# Altium schematic symbol library rtc.SchLib: 81 symbols
Pins are listed as number, name and electrical type; pins without a type are passive.

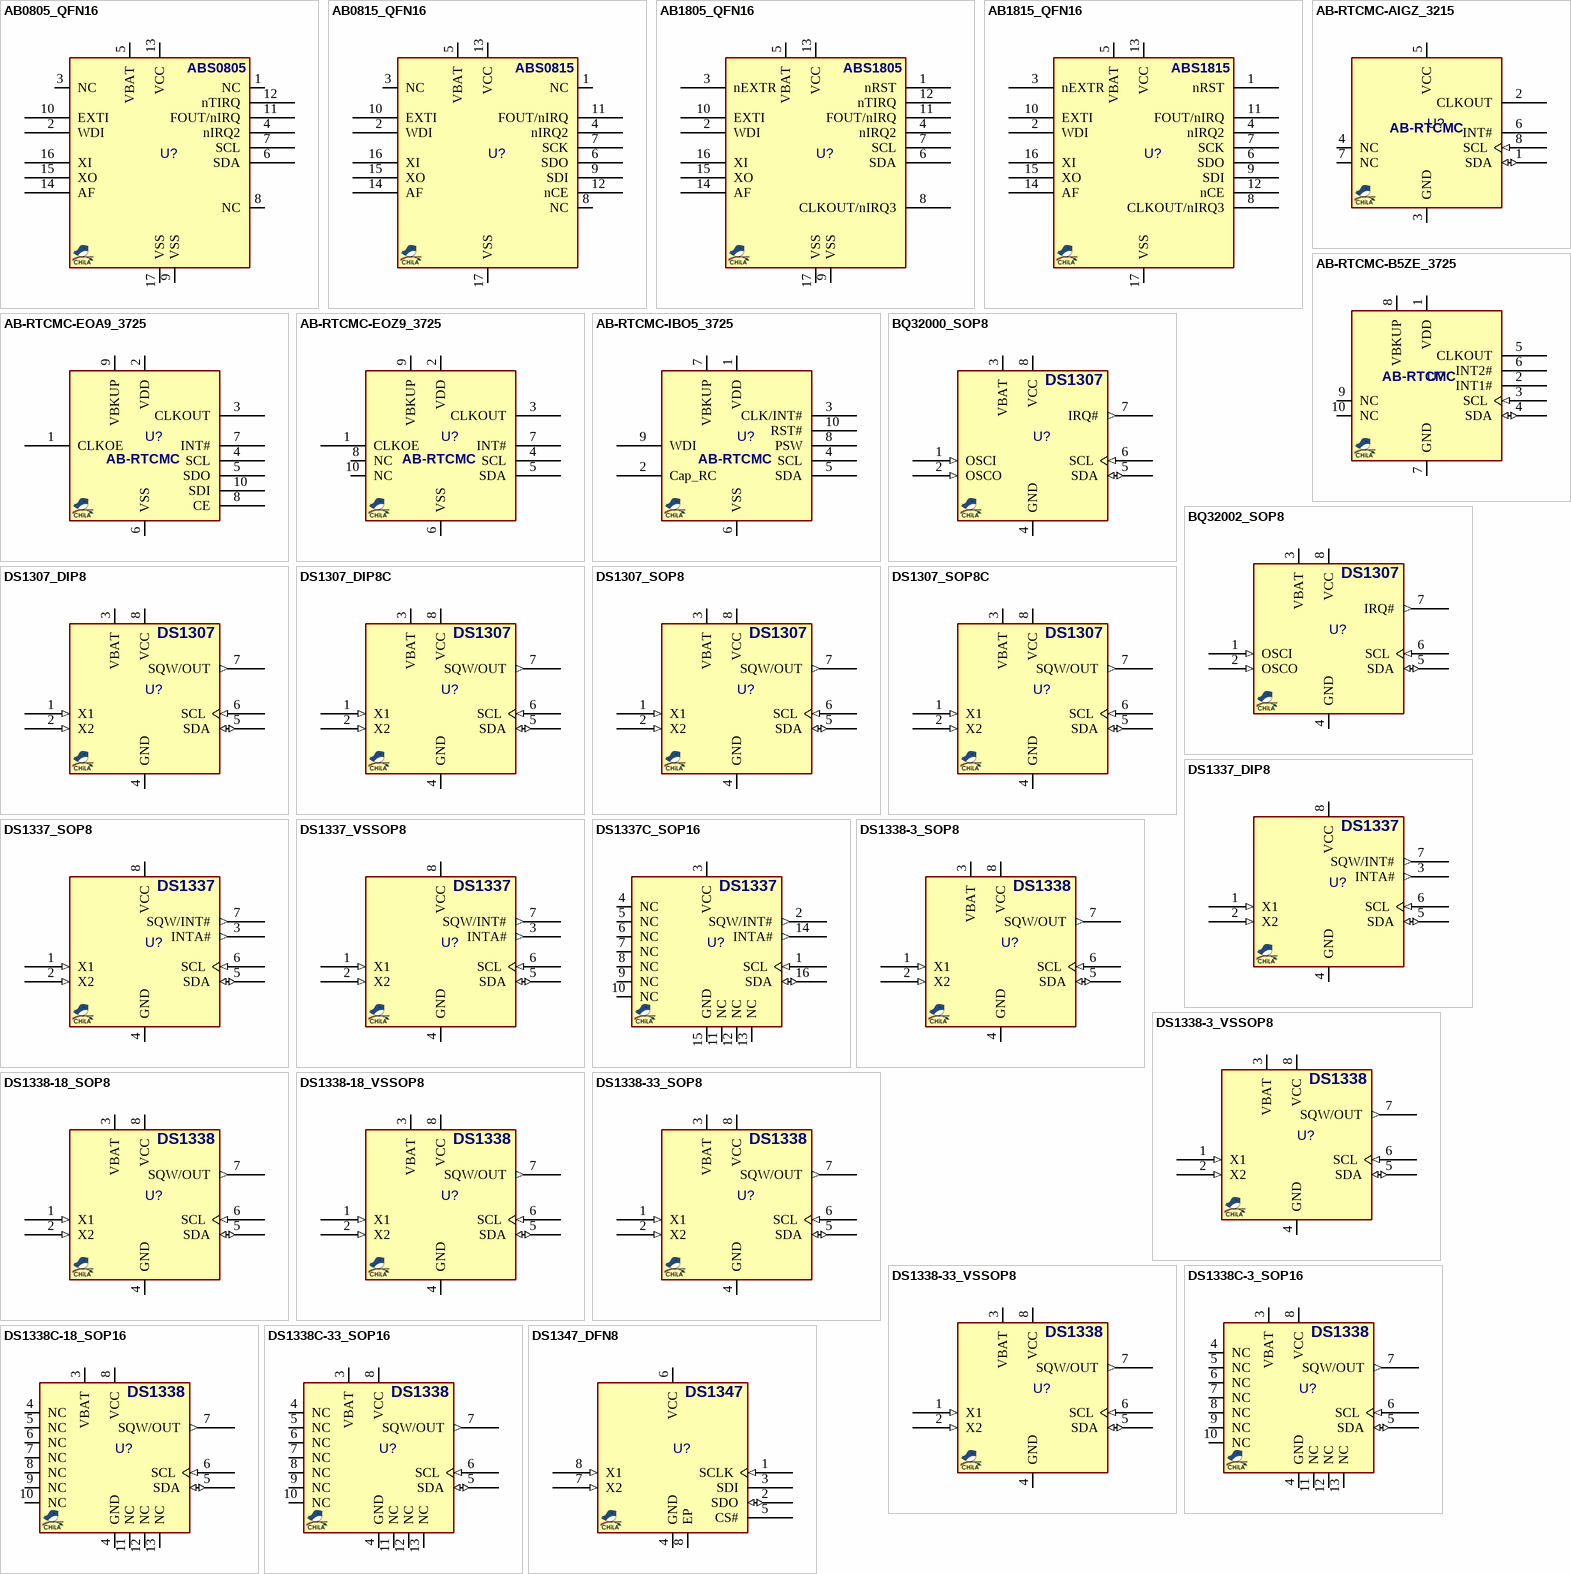
[diagram p0: symbols AB0805_QFN16 to DS1347_DFN8]

## AB0805_QFN16
designator U?, comment AB0805  (value not drawn)
Real-Time Clock, I2C, 256B, Batt, 14nA/3V timekeeping; DESC: Alarm, Calendar, Clock; MANF: ABRACON; MANF_P#: AB0805-T3; PARAM2: 1.5~3.6V; PARAM: I2C, 256B, Batt, -40~85oC; VALUE: AB0805; PRICE: 1.8$; PACKAGE: QFN-16
footprint QFN50_16T_3X3 (RGT PVQFN (TI), 16-lead, pitch: 0.5mm, 3x3mm)
pins: 1 NC, 2 WDI, 3 NC, 4 nIRQ2, 5 VBAT, 6 SDA, 7 SCL, 8 NC, 9 VSS, 10 EXTI, 11 FOUT/nIRQ, 12 nTIRQ, 13 VCC, 14 AF, 15 XO, 16 XI, 17 VSS
text: ABS0805

## AB0815_QFN16
designator U?, comment AB0815  (value not drawn)
Real-Time Clock, SPI, 256B, Batt, 14nA/3V timekeeping; DESC: Alarm, Calendar, Clock; MANF: ABRACON; MANF_P#: AB0815-T3; PARAM2: 1.5~3.6V; PARAM: SPI, 256B, Batt, -40~85oC; VALUE: AB0815; PRICE: 1.8$; PACKAGE: QFN-16
footprint QFN50_16T_3X3 (RGT PVQFN (TI), 16-lead, pitch: 0.5mm, 3x3mm)
pins: 1 NC, 2 WDI, 3 NC, 4 nIRQ2, 5 VBAT, 6 SDO, 7 SCK, 8 NC, 9 SDI, 10 EXTI, 11 FOUT/nIRQ, 12 nCE, 13 VCC, 14 AF, 15 XO, 16 XI, 17 VSS
text: ABS0815

## AB1805_QFN16
designator U?, comment AB0805  (value not drawn)
Real-Time Clock, I2C, 256B, Batt, 14nA/3V timekeeping; DESC: Alarm, Calendar, Clock; MANF: ABRACON; MANF_P#: AB1805-T3; PARAM2: 1.5~3.6V; PARAM: I2C, 256B, Batt, -40~85oC; VALUE: AB0805; PRICE: 2$; PACKAGE: QFN-16
footprint QFN50_16T_3X3 (RGT PVQFN (TI), 16-lead, pitch: 0.5mm, 3x3mm)
pins: 1 nRST, 2 WDI, 3 nEXTR, 4 nIRQ2, 5 VBAT, 6 SDA, 7 SCL, 8 CLKOUT/nIRQ3, 9 VSS, 10 EXTI, 11 FOUT/nIRQ, 12 nTIRQ, 13 VCC, 14 AF, 15 XO, 16 XI, 17 VSS
text: ABS1805

## AB1815_QFN16
designator U?, comment AB1815  (value not drawn)
Real-Time Clock, SPI, 256B, Batt, 14nA/3V timekeeping; DESC: Alarm, Calendar, Clock; MANF: ABRACON; MANF_P#: AB1815-T3; PARAM2: 1.5~3.6V; PARAM: SPI, 256B, Batt, -40~85oC; VALUE: AB1815; PRICE: 2$; PACKAGE: QFN-16
footprint QFN50_16T_3X3 (RGT PVQFN (TI), 16-lead, pitch: 0.5mm, 3x3mm)
pins: 1 nRST, 2 WDI, 3 nEXTR, 4 nIRQ2, 5 VBAT, 6 SDO, 7 SCK, 8 CLKOUT/nIRQ3, 9 SDI, 10 EXTI, 11 FOUT/nIRQ, 12 nCE, 13 VCC, 14 AF, 15 XO, 16 XI, 17 VSS
text: ABS1815

## AB-RTCMC-AIGZ_3215
designator U?, comment AB-RTCMC  (value not drawn)
Real-Time Clock, I2C, +IntCryst, 350nA/3V timekeeping; DESC: Alarm, Calendar, Clock; MANF: ABRACON; MANF_P#: AB-RTCMC-32.768kHz-AIGZ-S7; PARAM2: 1.3~4.4V; PARAM: I2C, +IntCryst, -40~85oC; VALUE: AB-RTCMC; PRICE: 4.8$; PACKAGE: XTL_8_3215
footprint XTL_8_3215 (8-CLCC, 3.2X1.5X0.8mm, 0.9mm pitch)
pins: 1 SDA (io), 2 CLKOUT, 3 GND (power), 4 NC, 5 VCC (power), 6 INT#, 7 NC, 8 SCL (in)

## AB-RTCMC-B5ZE_3725
designator U?, comment AB-RTCMC  (value not drawn)
Real-Time Clock, I2C, +IntCryst, 130nA/3V timekeeping; DESC: Alarm, Calendar, Clock; MANF: ABRACON; MANF_P#: AB-RTCMC-32.768kHz-B5ZE-S3; PARAM2: 1.6~5.5V; PARAM: I2C, +IntCryst, -40~85oC; VALUE: AB-RTCMC; PRICE: 4.8$; PACKAGE: XTL_10_3725
footprint XTL_10_3725 (10-VDFN, 3.7X2.5X0.9mm, 0.8mm pitch)
pins: 1 VDD (power), 2 INT1#, 3 SCL (in), 4 SDA (io), 5 CLKOUT, 6 INT2#, 7 GND (power), 8 VBKUP (power), 9 NC, 10 NC

## AB-RTCMC-EOA9_3725
designator U?, comment AB-RTCMC  (value not drawn)
Real-Time Clock, I2C, +IntCryst, 800nA/3V timekeeping; DESC: Alarm, Calendar, Clock; MANF: ABRACON; MANF_P#: AB-RTCMC-32.768KHZ-EOA9-S3; PARAM2: 1.4~5.5V; PARAM: I2C, +IntCryst, -40~125oC; VALUE: AB-RTCMC; PRICE: 4.8$; PACKAGE: XTL_10_3725
footprint XTL_10_3725 (10-VDFN, 3.7X2.5X0.9mm, 0.8mm pitch)
pins: 1 CLKOE, 2 VDD, 3 CLKOUT, 4 SCL, 5 SDO, 6 VSS, 7 INT#, 8 CE, 9 VBKUP, 10 SDI

## AB-RTCMC-EOZ9_3725
designator U?, comment AB-RTCMC  (value not drawn)
Real-Time Clock, I2C, +IntCryst, 800nA/3V timekeeping; DESC: Alarm, Calendar, Clock; MANF: ABRACON; MANF_P#: AB-RTCMC-32.768kHz-EOZ9-S3; PARAM2: 1.4~5.5V; PARAM: I2C, +IntCryst, -40~85oC; VALUE: AB-RTCMC; PRICE: 4.8$; PACKAGE: XTL_10_3725
footprint XTL_10_3725 (10-VDFN, 3.7X2.5X0.9mm, 0.8mm pitch)
pins: 1 CLKOE, 2 VDD, 3 CLKOUT, 4 SCL, 5 SDA, 6 VSS, 7 INT#, 8 NC, 9 VBKUP, 10 NC

## AB-RTCMC-IBO5_3725
designator U?, comment AB-RTCMC  (value not drawn)
Real-Time Clock, I2C, +IntCryst, 512B, 22nA@3V timekeeping; DESC: Alarm, Calendar, Clock; MANF: ABRACON; MANF_P#: AB-RTCMC-32.768kHz-IBO5-S3; PARAM2: 1.5~3.6V; PARAM: I2C, +IntCryst, 512B, -40~85oC; VALUE: AB-RTCMC; PRICE: 4.8$; PACKAGE: XTL_10_3725
footprint XTL_10_3725 (10-VDFN, 3.7X2.5X0.9mm, 0.8mm pitch)
pins: 1 VDD, 2 Cap_RC, 3 CLK/INT#, 4 SCL, 5 SDA, 6 VSS, 7 VBKUP, 8 PSW, 9 WDI, 10 RST#

## BQ32000_SOP8
designator U?, comment BQ32000  (value not drawn)
Real-Time Clock, I2C, Batt; MANF: Texas Instruments; MANF_P#: BQ32000D; PARAM2: 3~3.6V; PARAM: I2C, Batt, -40~85oC; VALUE: BQ32000; PRICE: 1.7$; PACKAGE: SOP-8
footprint SO_8 (SOP-8, 5x3.9mm body 1.27mm pitch, SOT96-1, M08A, S8, SOIC8, VO8, MS-012AA(JEDEC), R-8, 8S2, VOG8)
pins: 1 OSCI (in), 2 OSCO (in), 3 VBAT (power), 4 GND (power), 5 SDA (io), 6 SCL (in), 7 IRQ# (out), 8 VCC (power)
text: DS1307

## BQ32002_SOP8
designator U?, comment BQ32002  (value not drawn)
Real-Time Clock, I2C, Batt; MANF: Texas Instruments; MANF_P#: BQ32002D; PARAM2: 3~3.6V; PARAM: I2C, Batt, -40~85oC; VALUE: BQ32002; PRICE: 1.7$; PACKAGE: SOP-8
footprint SO_8 (SOP-8, 5x3.9mm body 1.27mm pitch, SOT96-1, M08A, S8, SOIC8, VO8, MS-012AA(JEDEC), R-8, 8S2, VOG8)
pins: 1 OSCI (in), 2 OSCO (in), 3 VBAT (power), 4 GND (power), 5 SDA (io), 6 SCL (in), 7 IRQ# (out), 8 VCC (power)
text: DS1307

## DS1307_DIP8
designator U?, comment DS1307  (value not drawn)
Real-Time Clock, 64 X8, I2C, 56B, Batt; MANF: Maxim Integrated; MANF_P#: DS1307N+; PARAM2: 4.5~5.5V; PARAM: 64 X8, I2C, 56B, Batt, -40~85oC; VALUE: DS1307; PRICE: 3.7$; PACKAGE: DIP-8
footprint DIP_8 (DIP, pitch 2.54mm, 300mil Width)
pins: 1 X1 (in), 2 X2 (in), 3 VBAT (power), 4 GND (power), 5 SDA (io), 6 SCL (in), 7 SQW/OUT (out), 8 VCC (power)

## DS1307_DIP8C
designator U?, comment DS1307  (value not drawn)
Real-Time Clock, 64 X8, I2C, 56B, Batt; MANF: Maxim Integrated; MANF_P#: DS1307+; PARAM2: 4.5~5.5V; PARAM: 64 X8, I2C, 56B, Batt, 0~70oC; VALUE: DS1307; PRICE: 3.3$, 1000toman@Javan.paya; PACKAGE: DIP-8
footprint DIP_8 (DIP, pitch 2.54mm, 300mil Width)
pins: 1 X1 (in), 2 X2 (in), 3 VBAT (power), 4 GND (power), 5 SDA (io), 6 SCL (in), 7 SQW/OUT (out), 8 VCC (power)

## DS1307_SOP8
designator U?, comment DS1307  (value not drawn)
Real-Time Clock, 64 X8, I2C, 56B, Batt; MANF: Maxim Integrated; MANF_P#: DS1307ZN+; PARAM2: 4.5~5.5V; PARAM: 64 X8, I2C, 56B, Batt, -40~85oC; VALUE: DS1307; PRICE: 3.7$; PACKAGE: SOP-8
footprint SO_8 (SOP-8, 5x3.9mm body 1.27mm pitch, SOT96-1, M08A, S8, SOIC8, VO8, MS-012AA(JEDEC), R-8, 8S2, VOG8)
pins: 1 X1 (in), 2 X2 (in), 3 VBAT (power), 4 GND (power), 5 SDA (io), 6 SCL (in), 7 SQW/OUT (out), 8 VCC (power)

## DS1307_SOP8C
designator U?, comment DS1307  (value not drawn)
Real-Time Clock, 64 X8, I2C, 56B, Batt; MANF: Maxim Integrated; MANF_P#: DS1307Z+; PARAM2: 4.5~5.5V; PARAM: 64 X8, I2C, 56B, Batt, 0~70oC; VALUE: DS1307; PRICE: 3.3$, 1500toman@Javan.paya; PACKAGE: SOP-8
footprint SO_8 (SOP-8, 5x3.9mm body 1.27mm pitch, SOT96-1, M08A, S8, SOIC8, VO8, MS-012AA(JEDEC), R-8, 8S2, VOG8)
pins: 1 X1 (in), 2 X2 (in), 3 VBAT (power), 4 GND (power), 5 SDA (io), 6 SCL (in), 7 SQW/OUT (out), 8 VCC (power)

## DS1337_DIP8
designator U?, comment DS1337  (value not drawn)
Real-Time Clock, I2C; MANF: Maxim Integrated; MANF_P#: DS1337+; PARAM2: 1.8~5.5V; PARAM: I2C, -40~85oC; VALUE: DS1337; PRICE: 2.8$; PACKAGE: DIP-8
footprint DIP_8 (DIP, pitch 2.54mm, 300mil Width)
pins: 1 X1 (in), 2 X2 (in), 3 INTA# (out), 4 GND (power), 5 SDA (io), 6 SCL (in), 7 SQW/INT# (out), 8 VCC (power)

## DS1337_SOP8
designator U?, comment DS1337  (value not drawn)
Real-Time Clock, I2C; MANF: Maxim Integrated; MANF_P#: DS1337S+; PARAM2: 1.8~5.5V; PARAM: I2C, -40~85oC; VALUE: DS1337; PRICE: 2.6$; PACKAGE: SOP-8
footprint SO_8 (SOP-8, 5x3.9mm body 1.27mm pitch, SOT96-1, M08A, S8, SOIC8, VO8, MS-012AA(JEDEC), R-8, 8S2, VOG8)
pins: 1 X1 (in), 2 X2 (in), 3 INTA# (out), 4 GND (power), 5 SDA (io), 6 SCL (in), 7 SQW/INT# (out), 8 VCC (power)

## DS1337_VSSOP8
designator U?, comment DS1337  (value not drawn)
Real-Time Clock, I2C; MANF: Maxim Integrated; MANF_P#: DS1337U+; PARAM2: 1.8~5.5V; PARAM: I2C, -40~85oC; VALUE: DS1337; PRICE: 2.6$; PACKAGE: VSSOP-8
footprint SOG65_8_3 (TSSOP8, MICRO8,  DGK VSSOP-8, MSOP8,   RM-8, MS8, MSOP-8, TSSO3X5-G8/D3.1, 8 uMAX, usop8/8uSOP, MO-187AA, MO-153AA, SSOP DCT SM8 (TI), pitch: 0.65mm, 3.0mmX3.0mm)
pins: 1 X1 (in), 2 X2 (in), 3 INTA# (out), 4 GND (power), 5 SDA (io), 6 SCL (in), 7 SQW/INT# (out), 8 VCC (power)

## DS1337C_SOP16
designator U?, comment DS1337  (value not drawn)
Real-Time Clock, I2C, +IntCryst; MANF: Maxim Integrated; MANF_P#: DS1337C#; PARAM2: 1.8~5.5V; PARAM: I2C, -40~85oC; VALUE: DS1337; PRICE: 5$; PACKAGE: SOP-16
footprint SO_16 (SOP, SOIC, 3.9mm width, 1.27mm pitch,)
pins: 1 SCL (in), 2 SQW/INT# (out), 3 VCC (power), 4 NC, 5 NC, 6 NC, 7 NC, 8 NC, 9 NC, 10 NC, 11 NC, 12 NC, 13 NC, 14 INTA# (out), 15 GND (power), 16 SDA (io)

## DS1338-3_SOP8
designator U?, comment DS1338  (value not drawn)
Real-Time Clock, I2C, 56B, Batt; MANF: Maxim Integrated; MANF_P#: DS1338Z-3+; PARAM2: 2.7~5.5VCC, 1.3~3.7VBAT; PARAM: I2C, 56B, Batt, -40~85oC; VALUE: DS1338; PRICE: 3.4$; PACKAGE: SOP-8
footprint SO_8 (SOP-8, 5x3.9mm body 1.27mm pitch, SOT96-1, M08A, S8, SOIC8, VO8, MS-012AA(JEDEC), R-8, 8S2, VOG8)
pins: 1 X1 (in), 2 X2 (in), 3 VBAT (power), 4 GND (power), 5 SDA (io), 6 SCL (in), 7 SQW/OUT (out), 8 VCC (power)

## DS1338-3_VSSOP8
designator U?, comment DS1338  (value not drawn)
Real-Time Clock, I2C, 56B, Batt; MANF: Maxim Integrated; MANF_P#: DS1338U-3+; PARAM2: 2.7~5.5VCC, 1.3~3.7VBAT; PARAM: I2C, 56B, Batt, -40~85oC; VALUE: DS1338; PRICE: 3.4$; PACKAGE: VSSOP-8
footprint SOG65_8_3 (TSSOP8, MICRO8,  DGK VSSOP-8, MSOP8,   RM-8, MS8, MSOP-8, TSSO3X5-G8/D3.1, 8 uMAX, usop8/8uSOP, MO-187AA, MO-153AA, SSOP DCT SM8 (TI), pitch: 0.65mm, 3.0mmX3.0mm)
pins: 1 X1 (in), 2 X2 (in), 3 VBAT (power), 4 GND (power), 5 SDA (io), 6 SCL (in), 7 SQW/OUT (out), 8 VCC (power)

## DS1338-18_SOP8
designator U?, comment DS1338  (value not drawn)
Real-Time Clock, I2C, 56B, Batt; MANF: Maxim Integrated; MANF_P#: DS1338Z-18+; PARAM2: 1.7~5.5VCC, 1.3~3.7VBAT; PARAM: I2C, 56B, Batt, -40~85oC; VALUE: DS1338; PRICE: 3.4$; PACKAGE: SOP-8
footprint SO_8 (SOP-8, 5x3.9mm body 1.27mm pitch, SOT96-1, M08A, S8, SOIC8, VO8, MS-012AA(JEDEC), R-8, 8S2, VOG8)
pins: 1 X1 (in), 2 X2 (in), 3 VBAT (power), 4 GND (power), 5 SDA (io), 6 SCL (in), 7 SQW/OUT (out), 8 VCC (power)

## DS1338-18_VSSOP8
designator U?, comment DS1338  (value not drawn)
Real-Time Clock, I2C, 56B, Batt; MANF: Maxim Integrated; MANF_P#: DS1338U-18+; PARAM2: 1.7~5.5VCC, 1.3~3.7VBAT; PARAM: I2C, 56B, Batt, -40~85oC; VALUE: DS1338; PRICE: 3.4$; PACKAGE: VSSOP-8
footprint SOG65_8_3 (TSSOP8, MICRO8,  DGK VSSOP-8, MSOP8,   RM-8, MS8, MSOP-8, TSSO3X5-G8/D3.1, 8 uMAX, usop8/8uSOP, MO-187AA, MO-153AA, SSOP DCT SM8 (TI), pitch: 0.65mm, 3.0mmX3.0mm)
pins: 1 X1 (in), 2 X2 (in), 3 VBAT (power), 4 GND (power), 5 SDA (io), 6 SCL (in), 7 SQW/OUT (out), 8 VCC (power)

## DS1338-33_SOP8
designator U?, comment DS1338  (value not drawn)
Real-Time Clock, I2C, 56B, Batt; MANF: Maxim Integrated; MANF_P#: DS1338Z-33+; PARAM2: 3.0~5.5VCC, 1.3~3.7VBAT; PARAM: I2C, 56B, Batt, -40~85oC; VALUE: DS1338; PRICE: 3.4$; PACKAGE: SOP-8
footprint SO_8 (SOP-8, 5x3.9mm body 1.27mm pitch, SOT96-1, M08A, S8, SOIC8, VO8, MS-012AA(JEDEC), R-8, 8S2, VOG8)
pins: 1 X1 (in), 2 X2 (in), 3 VBAT (power), 4 GND (power), 5 SDA (io), 6 SCL (in), 7 SQW/OUT (out), 8 VCC (power)

## DS1338-33_VSSOP8
designator U?, comment DS1338  (value not drawn)
Real-Time Clock, I2C, 56B, Batt; MANF: Maxim Integrated; MANF_P#: DS1338U-33+; PARAM2: 3.0~5.5VCC, 1.3~3.7VBAT; PARAM: I2C, 56B, Batt, -40~85oC; VALUE: DS1338; PRICE: 3.4$; PACKAGE: VSSOP-8
footprint SOG65_8_3 (TSSOP8, MICRO8,  DGK VSSOP-8, MSOP8,   RM-8, MS8, MSOP-8, TSSO3X5-G8/D3.1, 8 uMAX, usop8/8uSOP, MO-187AA, MO-153AA, SSOP DCT SM8 (TI), pitch: 0.65mm, 3.0mmX3.0mm)
pins: 1 X1 (in), 2 X2 (in), 3 VBAT (power), 4 GND (power), 5 SDA (io), 6 SCL (in), 7 SQW/OUT (out), 8 VCC (power)

## DS1338C-3_SOP16
designator U?, comment DS1338  (value not drawn)
Real-Time Clock, I2C, 56B, Batt, +IntCryst; MANF: Maxim Integrated; MANF_P#: DS1338C-3#; PARAM2: 2.7~5.5VCC, 1.3~3.7VBAT; PARAM: I2C, 56B, Batt, +IntCryst, -40~85oC; VALUE: DS1338; PRICE: 5.5$; PACKAGE: SOP-16
footprint SO_8 (SOP-8, 5x3.9mm body 1.27mm pitch, SOT96-1, M08A, S8, SOIC8, VO8, MS-012AA(JEDEC), R-8, 8S2, VOG8)
pins: 3 VBAT (power), 4 GND (power), 4 NC, 5 SDA (io), 5 NC, 6 SCL (in), 6 NC, 7 SQW/OUT (out), 7 NC, 8 VCC (power), 8 NC, 9 NC, 10 NC, 11 NC, 12 NC, 13 NC

## DS1338C-18_SOP16
designator U?, comment DS1338  (value not drawn)
Real-Time Clock, I2C, 56B, Batt, +IntCryst; MANF: Maxim Integrated; MANF_P#: DS1338C-18#; PARAM2: 1.7~5.5VCC, 1.3~3.7VBAT; PARAM: I2C, 56B, Batt, +IntCryst, -40~85oC; VALUE: DS1338; PRICE: 5.5$; PACKAGE: SOP-16
footprint SO_8 (SOP-8, 5x3.9mm body 1.27mm pitch, SOT96-1, M08A, S8, SOIC8, VO8, MS-012AA(JEDEC), R-8, 8S2, VOG8)
pins: 3 VBAT (power), 4 GND (power), 4 NC, 5 SDA (io), 5 NC, 6 SCL (in), 6 NC, 7 SQW/OUT (out), 7 NC, 8 VCC (power), 8 NC, 9 NC, 10 NC, 11 NC, 12 NC, 13 NC

## DS1338C-33_SOP16
designator U?, comment DS1338  (value not drawn)
Real-Time Clock, I2C, 56B, Batt, +IntCryst; MANF: Maxim Integrated; MANF_P#: DS1338C-33#; PARAM2: 3.0~5.5VCC, 1.3~3.7VBAT; PARAM: I2C, 56B, Batt, +IntCryst, -40~85oC; VALUE: DS1338; PRICE: 5.5$; PACKAGE: SOP-16
footprint SO_8 (SOP-8, 5x3.9mm body 1.27mm pitch, SOT96-1, M08A, S8, SOIC8, VO8, MS-012AA(JEDEC), R-8, 8S2, VOG8)
pins: 3 VBAT (power), 4 GND (power), 4 NC, 5 SDA (io), 5 NC, 6 SCL (in), 6 NC, 7 SQW/OUT (out), 7 NC, 8 VCC (power), 8 NC, 9 NC, 10 NC, 11 NC, 12 NC, 13 NC

## DS1347_DFN8
designator U?, comment DS1347  (value not drawn)
Real-Time Clock, SPI, 31B-SRAM, 400nA@2V timekeeping; MANF: Maxim Integrated; MANF_P#: DS1347T+; PARAM2: 2~5.5V; PARAM: k, SPI, 31B-SRAM, 400nA@2V, -40~85oC; VALUE: DS1347; PRICE: 3$; PACKAGE: DFN-8
footprint SON65_8T_3030 (DRB PVSON8 (TI), 3.00x3.00mm, Pitch 0.65mm)
pins: 1 SCLK (in), 2 SDO (io), 3 SDI, 4 GND (power), 5 CS#, 6 VCC (power), 7 X2 (in), 8 X1 (in), 8 EP (power)

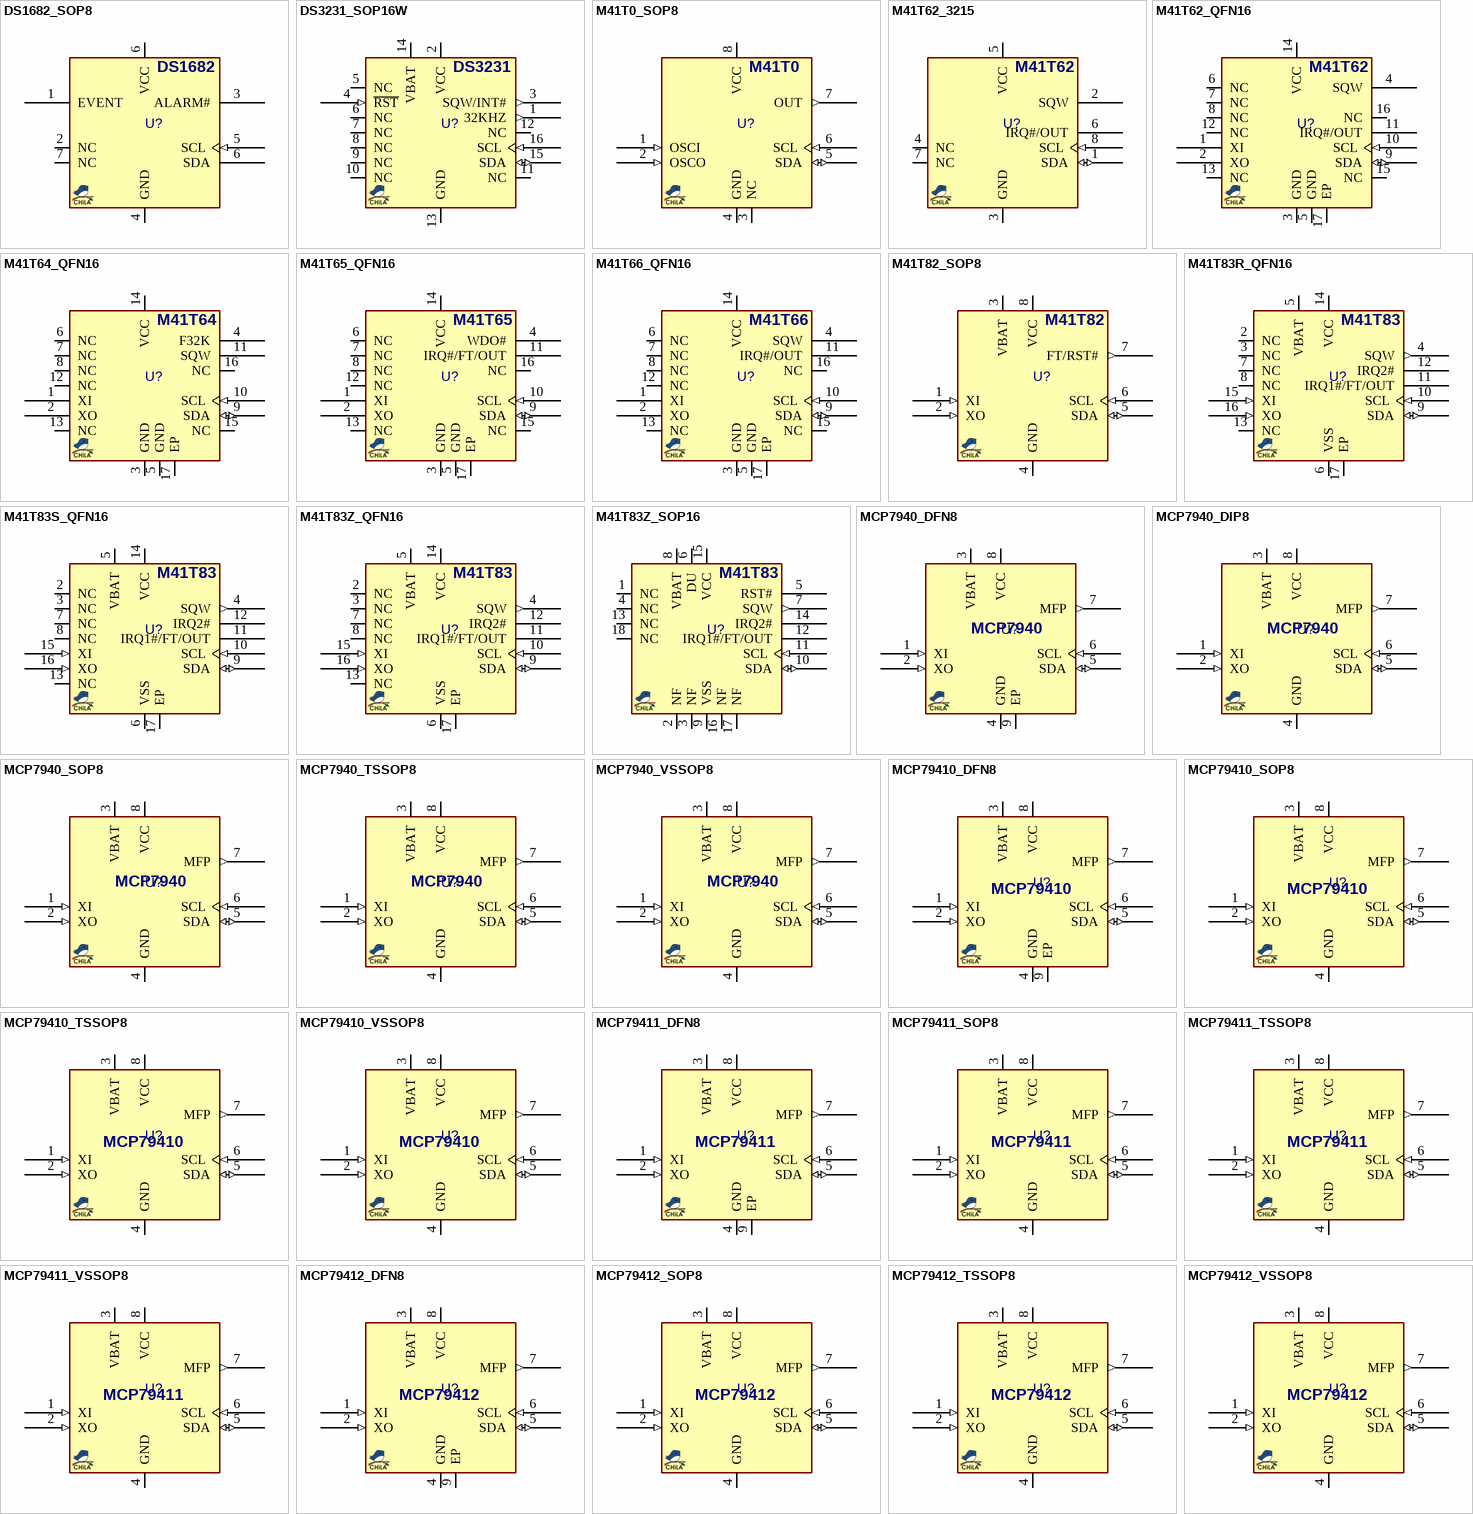
[diagram p1: symbols DS1682_SOP8 to MCP79412_VSSOP8]

## DS1682_SOP8
designator U?, comment DS1682  (value not drawn)
Real-Time Clock, I2C, 10B-ROM, +IntCryst; MANF: Maxim Integrated; MANF_P#: DS1682S+; PARAM2: 2.5~5.5V; PARAM: I2C, 10B-ROM, +IntCryst, -40~85oC; VALUE: DS1682; PRICE: 5$; PACKAGE: SOP-8
footprint SO_8 (SOP-8, 5x3.9mm body 1.27mm pitch, SOT96-1, M08A, S8, SOIC8, VO8, MS-012AA(JEDEC), R-8, 8S2, VOG8)
pins: 1 EVENT, 2 NC, 3 ALARM#, 4 GND (power), 5 SCL (in), 6 VCC (power), 6 SDA, 7 NC

## DS3231_SOP16W
designator U?, comment DS3231  (value not drawn)
Real-Time Clock, I2C, +IntCryst; MANF: Maxim Integrated; MANF_P#: DS3231SN#; PARAM2: 2.3~5.5V; PARAM: I2C, +IntCryst, -40~85°C; VALUE: DS3231; PRICE: 10$; PACKAGE: SOIC-16W
footprint SO_16_W (SOP, SOIC, 7.5mm width, 1.27mm pitch,)
pins: 1 32KHZ (out), 2 VCC (power), 3 SQW/INT# (out), 4 ~{RST} (in), 5 NC, 6 NC, 7 NC, 8 NC, 9 NC, 10 NC, 11 NC, 12 NC, 13 GND (power), 14 VBAT (power), 15 SDA (io), 16 SCL (in)

## M41T0_SOP8
designator U?, comment M41T0  (value not drawn)
Real-Time Clock, I2C, 8B; MANF: STMicroelectronics; MANF_P#: M41T0M6F; PARAM2: 2~5.5V; PARAM: I2C, 8B, -40~85oC; VALUE: M41T0; PRICE: 2$; PACKAGE: SOP-8
footprint SO_8 (SOP-8, 5x3.9mm body 1.27mm pitch, SOT96-1, M08A, S8, SOIC8, VO8, MS-012AA(JEDEC), R-8, 8S2, VOG8)
pins: 1 OSCI (in), 2 OSCO (in), 3 NC (power), 4 GND (power), 5 SDA (io), 6 SCL (in), 7 OUT (out), 8 VCC (power)

## M41T62_3215
designator U?, comment M41T62  (value not drawn)
Real-Time Clock, I2C, 16B, Alarm, +IntCryst; MANF: STMicroelectronics; MANF_P#: M41T62LC6F; PARAM2: 1.3~4.4V; PARAM: I2C, 16B, +IntCryst, -40~85oC; VALUE: M41T62; PRICE: 3.8$; PACKAGE: XTL_8_3215
footprint XTL_8_3215 (8-CLCC, 3.2X1.5X0.8mm, 0.9mm pitch)
pins: 1 SDA (io), 2 SQW, 3 GND (power), 4 NC, 5 VCC (power), 6 IRQ#/OUT, 7 NC, 8 SCL (in)

## M41T62_QFN16
designator U?, comment M41T62  (value not drawn)
Real-Time Clock, I2C, 16B, Alarm; MANF: STMicroelectronics; MANF_P#: M41T62Q6F; PARAM2: 1.3~4.4V; PARAM: I2C, 16B, -40~85oC; VALUE: M41T62; PRICE: 1.9$; PACKAGE: QFN-16
footprint QFN50_16T_3X3 (RGT PVQFN (TI), 16-lead, pitch: 0.5mm, 3x3mm)
pins: 1 XI, 2 XO, 3 GND (power), 4 SQW, 5 GND (power), 6 NC, 7 NC, 8 NC, 9 SDA (io), 10 SCL (in), 11 IRQ#/OUT, 12 NC, 13 NC, 14 VCC (power), 15 NC, 16 NC, 17 EP

## M41T64_QFN16
designator U?, comment M41T64  (value not drawn)
Real-Time Clock, I2C, 16B, Alarm; MANF: STMicroelectronics; MANF_P#: M41T64Q6F; PARAM2: 1.3~4.4V; PARAM: I2C, 16B, -40~85oC; VALUE: M41T64; PRICE: 1.9$; PACKAGE: QFN-16
footprint QFN50_16T_3X3 (RGT PVQFN (TI), 16-lead, pitch: 0.5mm, 3x3mm)
pins: 1 XI, 2 XO, 3 GND (power), 4 F32K, 5 GND (power), 6 NC, 7 NC, 8 NC, 9 SDA (io), 10 SCL (in), 11 SQW, 12 NC, 13 NC, 14 VCC (power), 15 NC, 16 NC, 17 EP

## M41T65_QFN16
designator U?, comment M41T65  (value not drawn)
Real-Time Clock, I2C, 16B, Alarm; MANF: STMicroelectronics; MANF_P#: M41T65Q6F; PARAM2: 1.3~4.4V; PARAM: I2C, 16B, -40~85oC; VALUE: M41T65; PRICE: 1.9$; PACKAGE: QFN-16
footprint QFN50_16T_3X3 (RGT PVQFN (TI), 16-lead, pitch: 0.5mm, 3x3mm)
pins: 1 XI, 2 XO, 3 GND (power), 4 WDO#, 5 GND (power), 6 NC, 7 NC, 8 NC, 9 SDA (io), 10 SCL (in), 11 IRQ#/FT/OUT, 12 NC, 13 NC, 14 VCC (power), 15 NC, 16 NC, 17 EP

## M41T66_QFN16
designator U?, comment M41T66  (value not drawn)
Real-Time Clock, I2C, 16B, Alarm, 525nA@3V timekeeping; MANF: STMicroelectronics; MANF_P#: M41T66Q6F; PARAM2: 1.3~4.4V; PARAM: I2C, 16B, -40~85oC; VALUE: M41T66; PRICE: 1.9$; PACKAGE: QFN-16
footprint QFN50_16T_3X3 (RGT PVQFN (TI), 16-lead, pitch: 0.5mm, 3x3mm)
pins: 1 XI, 2 XO, 3 GND (power), 4 SQW, 5 GND (power), 6 NC, 7 NC, 8 NC, 9 SDA (io), 10 SCL (in), 11 IRQ#/OUT, 12 NC, 13 NC, 14 VCC (power), 15 NC, 16 NC, 17 EP

## M41T82_SOP8
designator U?, comment M41T82  (value not drawn)
Real-Time Clock, I2C, 32B, BATT, alarm; MANF: STMicroelectronics; MANF_P#: M41T82RM6F; PARAM2: 2~5.5V; PARAM: I2C, 32B, -40~85oC; VALUE: M41T82; PRICE: 2.5$; PACKAGE: SOP-8
footprint SO_8 (SOP-8, 5x3.9mm body 1.27mm pitch, SOT96-1, M08A, S8, SOIC8, VO8, MS-012AA(JEDEC), R-8, 8S2, VOG8)
pins: 1 XI (in), 2 XO (in), 3 VBAT (power), 4 GND (power), 5 SDA (io), 6 SCL (in), 7 FT/RST# (out), 8 VCC (power)

## M41T83R_QFN16
designator U?, comment M41T83  (value not drawn)
Real-Time Clock, I2C, 32B, BATT, alarm; MANF: STMicroelectronics; MANF_P#: M41T83RQA6F; PARAM2: 2.7~5.5V; PARAM: I2C, 32B, -40~85oC; VALUE: M41T83; PRICE: 2.75$; PACKAGE: QFN-16
footprint QFN50_16T_3X3 (RGT PVQFN (TI), 16-lead, pitch: 0.5mm, 3x3mm)
pins: 2 NC, 3 NC, 4 SQW (out), 5 VBAT (power), 6 VSS (power), 7 NC, 8 NC, 9 SDA (io), 10 SCL (in), 11 IRQ1#/FT/OUT, 12 IRQ2#, 13 NC, 14 VCC (power), 15 XI (in), 16 XO (in), 17 EP

## M41T83S_QFN16
designator U?, comment M41T83  (value not drawn)
Real-Time Clock, I2C, 32B, BATT, alarm; MANF: STMicroelectronics; MANF_P#: M41T83SQA6F; PARAM2: 3~5.5V; PARAM: I2C, 32B, -40~85oC; VALUE: M41T83; PRICE: 2.75$; PACKAGE: QFN-16
footprint QFN50_16T_3X3 (RGT PVQFN (TI), 16-lead, pitch: 0.5mm, 3x3mm)
pins: 2 NC, 3 NC, 4 SQW (out), 5 VBAT (power), 6 VSS (power), 7 NC, 8 NC, 9 SDA (io), 10 SCL (in), 11 IRQ1#/FT/OUT, 12 IRQ2#, 13 NC, 14 VCC (power), 15 XI (in), 16 XO (in), 17 EP

## M41T83Z_QFN16
designator U?, comment M41T83  (value not drawn)
Real-Time Clock, I2C, 32B, BATT, alarm; MANF: STMicroelectronics; MANF_P#: M41T83ZQA6F; PARAM2: 2.4~5.5V; PARAM: I2C, 32B, -40~85oC; VALUE: M41T83; PRICE: 2.75$; PACKAGE: QFN-16
footprint QFN50_16T_3X3 (RGT PVQFN (TI), 16-lead, pitch: 0.5mm, 3x3mm)
pins: 2 NC, 3 NC, 4 SQW (out), 5 VBAT (power), 6 VSS (power), 7 NC, 8 NC, 9 SDA (io), 10 SCL (in), 11 IRQ1#/FT/OUT, 12 IRQ2#, 13 NC, 14 VCC (power), 15 XI (in), 16 XO (in), 17 EP

## M41T83Z_SOP16
designator U?, comment M41T83  (value not drawn)
Real-Time Clock, I2C, 32B, BATT, alarm, +IntCrystal; MANF: STMicroelectronics; MANF_P#: M41T83ZMY6F; PARAM2: 2.4~5.5V; PARAM: I2C, 32B, +IntCrystal, -40~85oC; VALUE: M41T83; PRICE: 4$; PACKAGE: SOP-16
footprint SO_18_W (SOP, SOIC, 7.5mm width, 1.27mm pitch,)
pins: 1 NC, 2 NF, 3 NF, 4 NC, 5 RST#, 6 DU (power), 7 SQW (out), 8 VBAT (power), 9 VSS (power), 10 SDA (io), 11 SCL (in), 12 IRQ1#/FT/OUT, 13 NC, 14 IRQ2#, 15 VCC (power), 16 NF, 17 NF, 18 NC

## MCP7940_DFN8
designator U?, comment MCP7940  (value not drawn)
Real-Time Clock, I2C, 64B, BATT, alarm; MANF: Microchip Technology; MANF_P#: MCP7940MT-I/MNY; PARAM2: 1.8~5.5V; PARAM: I2C, 64B, -40~85oC; VALUE: MCP7940; PRICE: 0.7$; PACKAGE: DFN-8
footprint SON50_8T_2030 (TDFN, UFDFPN8, Pitch: 0.5mm 2x3x0.8mm with Thermal pad)
pins: 1 XI (in), 2 XO (in), 3 VBAT (power), 4 GND (power), 5 SDA (io), 6 SCL (in), 7 MFP (out), 8 VCC (power), 9 EP (power)

## MCP7940_DIP8
designator U?, comment MCP7940  (value not drawn)
Real-Time Clock, I2C, 64B, BATT, alarm; MANF: Microchip Technology; MANF_P#: MCP7940N-I/P; PARAM2: 1.8~5.5V; PARAM: I2C, 64B, -40~85oC; VALUE: MCP7940; PRICE: 0.8$; PACKAGE: DIP-8
footprint DIP_8 (DIP, pitch 2.54mm, 300mil Width)
pins: 1 XI (in), 2 XO (in), 3 VBAT (power), 4 GND (power), 5 SDA (io), 6 SCL (in), 7 MFP (out), 8 VCC (power)

## MCP7940_SOP8
designator U?, comment MCP7940  (value not drawn)
Real-Time Clock, I2C, 64B, BATT, alarm; MANF: Microchip Technology; MANF_P#: MCP7940NT-I/SN; PARAM2: 1.8~5.5V; PARAM: I2C, 64B, -40~85oC; VALUE: MCP7940; PRICE: 0.8$; PACKAGE: SOP-8
footprint SO_8 (SOP-8, 5x3.9mm body 1.27mm pitch, SOT96-1, M08A, S8, SOIC8, VO8, MS-012AA(JEDEC), R-8, 8S2, VOG8)
pins: 1 XI (in), 2 XO (in), 3 VBAT (power), 4 GND (power), 5 SDA (io), 6 SCL (in), 7 MFP (out), 8 VCC (power)

## MCP7940_TSSOP8
designator U?, comment MCP7940  (value not drawn)
Real-Time Clock, I2C, 64B, BATT, alarm; MANF: Microchip Technology; MANF_P#: MCP7940N-I/ST; PARAM2: 1.8~5.5V; PARAM: I2C, 64B, -40~85oC; VALUE: MCP7940; PRICE: 0.8$; PACKAGE: TSSOP-8
footprint SOG65_8 (PW TSSOP (TI), MO-153 (JEDEC), 8Lead, pitch: 0.65mm, 3x4.4x1.2mm)
pins: 1 XI (in), 2 XO (in), 3 VBAT (power), 4 GND (power), 5 SDA (io), 6 SCL (in), 7 MFP (out), 8 VCC (power)

## MCP7940_VSSOP8
designator U?, comment MCP7940  (value not drawn)
Real-Time Clock, I2C, 64B, BATT, alarm; MANF: Microchip Technology; MANF_P#: MCP7940N-I/MS, MCP7940NT-I/MS; PARAM2: 1.8~5.5V; PARAM: I2C, 64B, -40~85oC; VALUE: MCP7940; PRICE: 0.8$; PACKAGE: VSSOP-8
footprint SOG65_8_3 (TSSOP8, MICRO8,  DGK VSSOP-8, MSOP8,   RM-8, MS8, MSOP-8, TSSO3X5-G8/D3.1, 8 uMAX, usop8/8uSOP, MO-187AA, MO-153AA, SSOP DCT SM8 (TI), pitch: 0.65mm, 3.0mmX3.0mm)
pins: 1 XI (in), 2 XO (in), 3 VBAT (power), 4 GND (power), 5 SDA (io), 6 SCL (in), 7 MFP (out), 8 VCC (power)

## MCP79410_DFN8
designator U?, comment MCP79410  (value not drawn)
Real-Time Clock, I2C, 64B SRAM, 1Kb EEPROM, BATT, alarm; MANF: Microchip Technology; MANF_P#: MCP79410T-I/MNY; PARAM2: 1.8~5.5V; PARAM: I2C, 64B, -40~85oC; VALUE: MCP79410; PRICE: 1$; PACKAGE: DFN-8
footprint SON50_8T_2030 (TDFN, UFDFPN8, Pitch: 0.5mm 2x3x0.8mm with Thermal pad)
pins: 1 XI (in), 2 XO (in), 3 VBAT (power), 4 GND (power), 5 SDA (io), 6 SCL (in), 7 MFP (out), 8 VCC (power), 9 EP (power)

## MCP79410_SOP8
designator U?, comment MCP79410  (value not drawn)
Real-Time Clock, I2C, 64B SRAM, 1Kb EEPROM, BATT, alarm; MANF: Microchip Technology; MANF_P#: MCP79410T-I/SN; PARAM2: 1.8~5.5V; PARAM: I2C, 64B, -40~85oC; VALUE: MCP79410; PRICE: 1$, 2500toman@Javan; PACKAGE: SOP-8
footprint SO_8 (SOP-8, 5x3.9mm body 1.27mm pitch, SOT96-1, M08A, S8, SOIC8, VO8, MS-012AA(JEDEC), R-8, 8S2, VOG8)
pins: 1 XI (in), 2 XO (in), 3 VBAT (power), 4 GND (power), 5 SDA (io), 6 SCL (in), 7 MFP (out), 8 VCC (power)

## MCP79410_TSSOP8
designator U?, comment MCP79410  (value not drawn)
Real-Time Clock, I2C, 64B SRAM, 1Kb EEPROM, BATT, alarm; MANF: Microchip Technology; MANF_P#: MCP79410-I/ST; PARAM2: 1.8~5.5V; PARAM: I2C, 64B, -40~85oC; VALUE: MCP79410; PRICE: 1$; PACKAGE: TSSOP-8
footprint SOG65_8 (PW TSSOP (TI), MO-153 (JEDEC), 8Lead, pitch: 0.65mm, 3x4.4x1.2mm)
pins: 1 XI (in), 2 XO (in), 3 VBAT (power), 4 GND (power), 5 SDA (io), 6 SCL (in), 7 MFP (out), 8 VCC (power)

## MCP79410_VSSOP8
designator U?, comment MCP79410  (value not drawn)
Real-Time Clock, I2C, 64B SRAM, 1Kb EEPROM, BATT, alarm; MANF: Microchip Technology; MANF_P#: MCP79410-I/MS; PARAM2: 1.8~5.5V; PARAM: I2C, 64B, -40~85oC; VALUE: MCP79410; PRICE: 1$; PACKAGE: VSSOP-8
footprint SOG65_8_3 (TSSOP8, MICRO8,  DGK VSSOP-8, MSOP8,   RM-8, MS8, MSOP-8, TSSO3X5-G8/D3.1, 8 uMAX, usop8/8uSOP, MO-187AA, MO-153AA, SSOP DCT SM8 (TI), pitch: 0.65mm, 3.0mmX3.0mm)
pins: 1 XI (in), 2 XO (in), 3 VBAT (power), 4 GND (power), 5 SDA (io), 6 SCL (in), 7 MFP (out), 8 VCC (power)

## MCP79411_DFN8
designator U?, comment MCP79411  (value not drawn)
Real-Time Clock, I2C, 64B SRAM, 1Kb EEPROM, BATT, alarm; MANF: Microchip Technology; MANF_P#: MCP79411T-I/MNY; PARAM2: 1.8~5.5V; PARAM: I2C, 64B, -40~85oC; VALUE: MCP79411; PRICE: 1$; PACKAGE: DFN-8
footprint SON50_8T_2030 (TDFN, UFDFPN8, Pitch: 0.5mm 2x3x0.8mm with Thermal pad)
pins: 1 XI (in), 2 XO (in), 3 VBAT (power), 4 GND (power), 5 SDA (io), 6 SCL (in), 7 MFP (out), 8 VCC (power), 9 EP (power)

## MCP79411_SOP8
designator U?, comment MCP79411  (value not drawn)
Real-Time Clock, I2C, 64B SRAM, 1Kb EEPROM, BATT, alarm; MANF: Microchip Technology; MANF_P#: MCP79411T-I/SN; PARAM2: 1.8~5.5V; PARAM: I2C, 64B, -40~85oC; VALUE: MCP79411; PRICE: 1$; PACKAGE: SOP-8
footprint SO_8 (SOP-8, 5x3.9mm body 1.27mm pitch, SOT96-1, M08A, S8, SOIC8, VO8, MS-012AA(JEDEC), R-8, 8S2, VOG8)
pins: 1 XI (in), 2 XO (in), 3 VBAT (power), 4 GND (power), 5 SDA (io), 6 SCL (in), 7 MFP (out), 8 VCC (power)

## MCP79411_TSSOP8
designator U?, comment MCP79411  (value not drawn)
Real-Time Clock, I2C, 64B SRAM, 1Kb EEPROM, BATT, alarm; MANF: Microchip Technology; MANF_P#: MCP79411-I/ST; PARAM2: 1.8~5.5V; PARAM: I2C, 64B, -40~85oC; VALUE: MCP79411; PRICE: 1$; PACKAGE: TSSOP-8
footprint SOG65_8 (PW TSSOP (TI), MO-153 (JEDEC), 8Lead, pitch: 0.65mm, 3x4.4x1.2mm)
pins: 1 XI (in), 2 XO (in), 3 VBAT (power), 4 GND (power), 5 SDA (io), 6 SCL (in), 7 MFP (out), 8 VCC (power)

## MCP79411_VSSOP8
designator U?, comment MCP79411  (value not drawn)
Real-Time Clock, I2C, 64B SRAM, 1Kb EEPROM, BATT, alarm; MANF: Microchip Technology; MANF_P#: MCP79411-I/MS; PARAM2: 1.8~5.5V; PARAM: I2C, 64B, -40~85oC; VALUE: MCP79411; PRICE: 1$; PACKAGE: VSSOP-8
footprint SOG65_8_3 (TSSOP8, MICRO8,  DGK VSSOP-8, MSOP8,   RM-8, MS8, MSOP-8, TSSO3X5-G8/D3.1, 8 uMAX, usop8/8uSOP, MO-187AA, MO-153AA, SSOP DCT SM8 (TI), pitch: 0.65mm, 3.0mmX3.0mm)
pins: 1 XI (in), 2 XO (in), 3 VBAT (power), 4 GND (power), 5 SDA (io), 6 SCL (in), 7 MFP (out), 8 VCC (power)

## MCP79412_DFN8
designator U?, comment MCP79412  (value not drawn)
Real-Time Clock, I2C, 64B SRAM, 1Kb EEPROM, BATT, alarm; MANF: Microchip Technology; MANF_P#: MCP79412T-I/MNY; PARAM2: 1.8~5.5V; PARAM: I2C, 64B, -40~85oC; VALUE: MCP79412; PRICE: 1$; PACKAGE: DFN-8
footprint SON50_8T_2030 (TDFN, UFDFPN8, Pitch: 0.5mm 2x3x0.8mm with Thermal pad)
pins: 1 XI (in), 2 XO (in), 3 VBAT (power), 4 GND (power), 5 SDA (io), 6 SCL (in), 7 MFP (out), 8 VCC (power), 9 EP (power)

## MCP79412_SOP8
designator U?, comment MCP79412  (value not drawn)
Real-Time Clock, I2C, 64B SRAM, 1Kb EEPROM, BATT, alarm; MANF: Microchip Technology; MANF_P#: MCP79412T-I/SN; PARAM2: 1.8~5.5V; PARAM: I2C, 64B, -40~85oC; VALUE: MCP79412; PRICE: 1$; PACKAGE: SOP-8
footprint SO_8 (SOP-8, 5x3.9mm body 1.27mm pitch, SOT96-1, M08A, S8, SOIC8, VO8, MS-012AA(JEDEC), R-8, 8S2, VOG8)
pins: 1 XI (in), 2 XO (in), 3 VBAT (power), 4 GND (power), 5 SDA (io), 6 SCL (in), 7 MFP (out), 8 VCC (power)

## MCP79412_TSSOP8
designator U?, comment MCP79412  (value not drawn)
Real-Time Clock, I2C, 64B SRAM, 1Kb EEPROM, BATT, alarm; MANF: Microchip Technology; MANF_P#: MCP79412-I/ST; PARAM2: 1.8~5.5V; PARAM: I2C, 64B, -40~85oC; VALUE: MCP79412; PRICE: 1$; PACKAGE: TSSOP-8
footprint SOG65_8 (PW TSSOP (TI), MO-153 (JEDEC), 8Lead, pitch: 0.65mm, 3x4.4x1.2mm)
pins: 1 XI (in), 2 XO (in), 3 VBAT (power), 4 GND (power), 5 SDA (io), 6 SCL (in), 7 MFP (out), 8 VCC (power)

## MCP79412_VSSOP8
designator U?, comment MCP79412  (value not drawn)
Real-Time Clock, I2C, 64B SRAM, 1Kb EEPROM, BATT, alarm; MANF: Microchip Technology; MANF_P#: MCP79412-I/MS; PARAM2: 1.8~5.5V; PARAM: I2C, 64B, -40~85oC; VALUE: MCP79412; PRICE: 1$; PACKAGE: VSSOP-8
footprint SOG65_8_3 (TSSOP8, MICRO8,  DGK VSSOP-8, MSOP8,   RM-8, MS8, MSOP-8, TSSO3X5-G8/D3.1, 8 uMAX, usop8/8uSOP, MO-187AA, MO-153AA, SSOP DCT SM8 (TI), pitch: 0.65mm, 3.0mmX3.0mm)
pins: 1 XI (in), 2 XO (in), 3 VBAT (power), 4 GND (power), 5 SDA (io), 6 SCL (in), 7 MFP (out), 8 VCC (power)

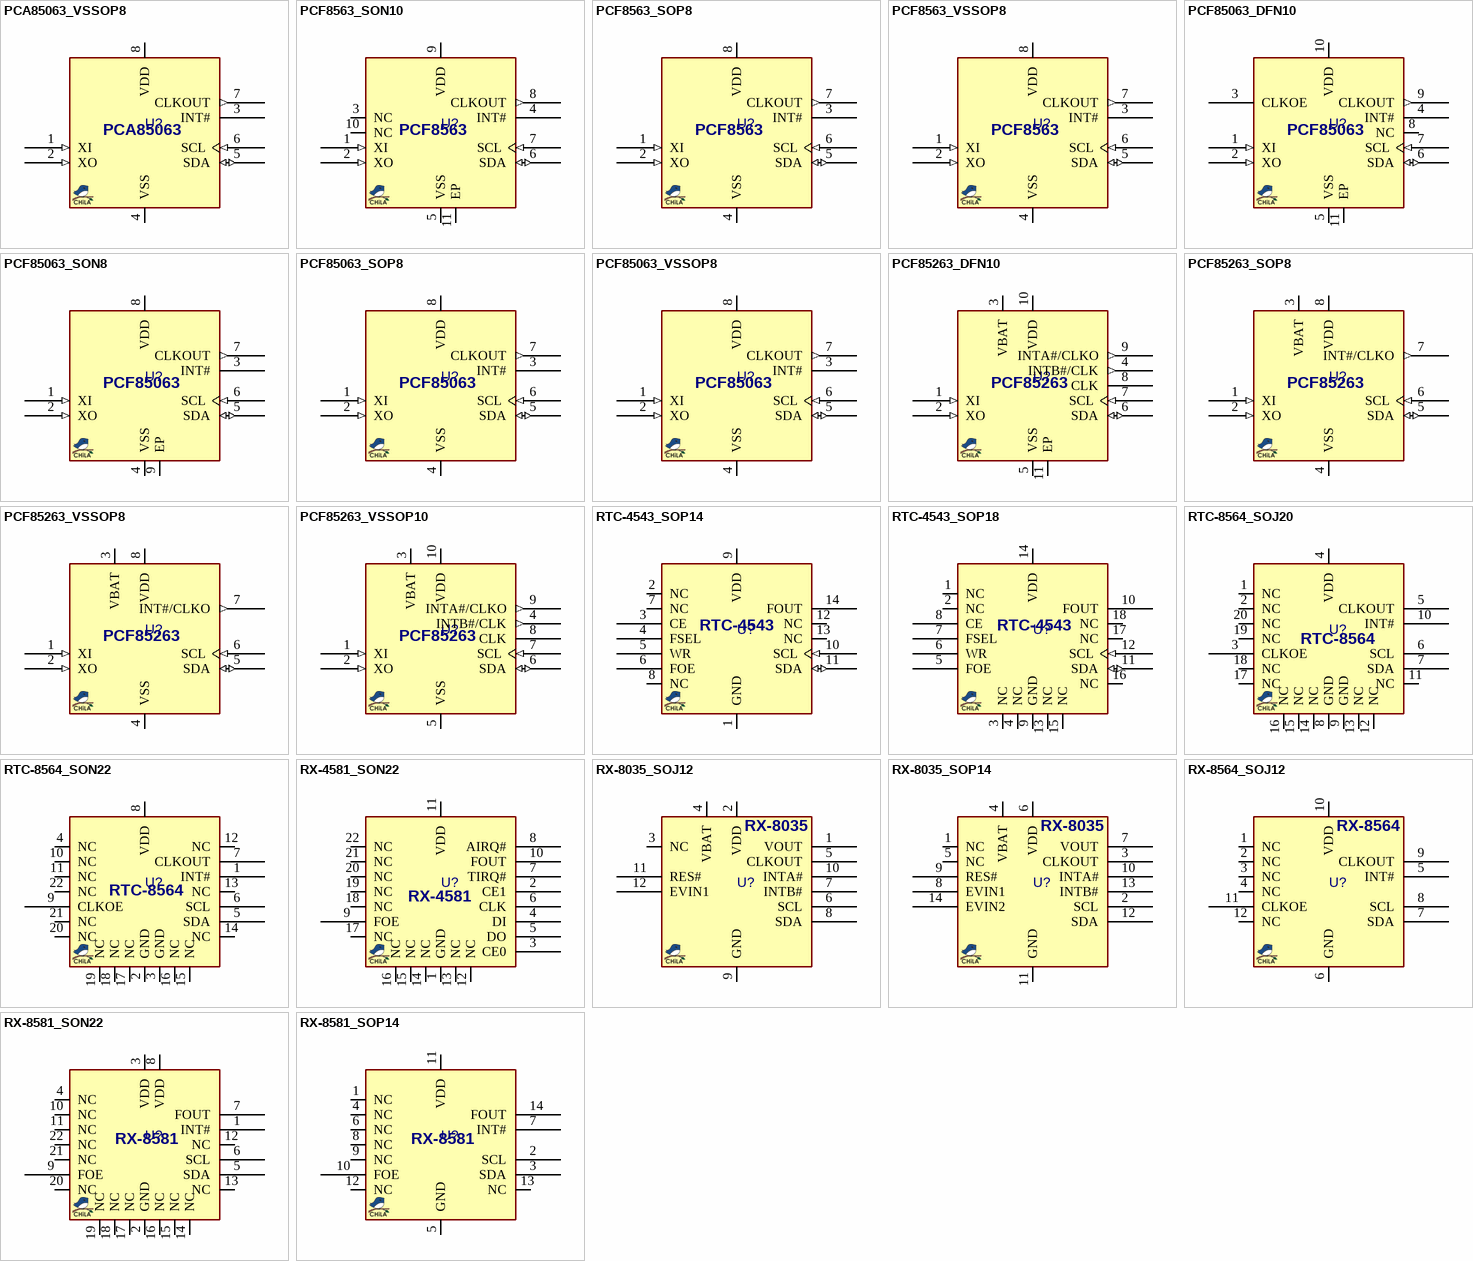
[diagram p2: symbols PCA85063_VSSOP8 to RX-8581_SOP14]

## PCA85063_VSSOP8
designator U?, comment PCA85063  (value not drawn)
Real-Time Clock, I2C, Alarm; MANF: NXP; MANF_P#: PCA85063ATT/AJ; PARAM2: 0.9~5.5V; PARAM: I2C, -40~105oC; VALUE: PCA85063; PRICE: 1.2$; PACKAGE: VSSOP-8
footprint SOG65_8_3 (TSSOP8, MICRO8,  DGK VSSOP-8, MSOP8,   RM-8, MS8, MSOP-8, TSSO3X5-G8/D3.1, 8 uMAX, usop8/8uSOP, MO-187AA, MO-153AA, SSOP DCT SM8 (TI), pitch: 0.65mm, 3.0mmX3.0mm)
pins: 1 XI (in), 2 XO (in), 3 INT#, 4 VSS (power), 5 SDA (io), 6 SCL (in), 7 CLKOUT (out), 8 VDD (power)

## PCF8563_SON10
designator U?, comment PCF8563  (value not drawn)
Real-Time Clock, I2C, Alarm; MANF: NXP; MANF_P#: PCF8563BS/4; PARAM2: 1~5.5V, 1.8~5.5VDD; PARAM: I2C, -40~85oC; VALUE: PCF8563; PRICE: 1.2$; PACKAGE: SON-10
footprint SON50_10T_3030 (DRC SON, 10 TDFN, 3X3mm, Pitch: 0.5mm with thermal pad)
pins: 1 XI (in), 2 XO (in), 3 NC, 4 INT#, 5 VSS (power), 6 SDA (io), 7 SCL (in), 8 CLKOUT (out), 9 VDD (power), 10 NC, 11 EP (power)

## PCF8563_SOP8
designator U?, comment PCF8563  (value not drawn)
Real-Time Clock, I2C, Alarm; MANF: NXP; MANF_P#: PCF8563T/5; PARAM2: 1~5.5V, 1.8~5.5VDD; PARAM: I2C, -40~85oC; VALUE: PCF8563; PRICE: 0.9$; PACKAGE: SOP-8
footprint SO_8 (SOP-8, 5x3.9mm body 1.27mm pitch, SOT96-1, M08A, S8, SOIC8, VO8, MS-012AA(JEDEC), R-8, 8S2, VOG8)
pins: 1 XI (in), 2 XO (in), 3 INT#, 4 VSS (power), 5 SDA (io), 6 SCL (in), 7 CLKOUT (out), 8 VDD (power)

## PCF8563_VSSOP8
designator U?, comment PCF8563  (value not drawn)
Real-Time Clock, I2C, Alarm; MANF: NXP; MANF_P#: PCF8563TS/5; PARAM2: 1~5.5V, 1.8~5.5VDD; PARAM: I2C, -40~85oC; VALUE: PCF8563; PRICE: 1.2$; PACKAGE: VSSOP-8
footprint SOG65_8_3 (TSSOP8, MICRO8,  DGK VSSOP-8, MSOP8,   RM-8, MS8, MSOP-8, TSSO3X5-G8/D3.1, 8 uMAX, usop8/8uSOP, MO-187AA, MO-153AA, SSOP DCT SM8 (TI), pitch: 0.65mm, 3.0mmX3.0mm)
pins: 1 XI (in), 2 XO (in), 3 INT#, 4 VSS (power), 5 SDA (io), 6 SCL (in), 7 CLKOUT (out), 8 VDD (power)

## PCF85063_DFN10
designator U?, comment PCF85063  (value not drawn)
Real-Time Clock, I2C, Alarm; MANF: NXP; MANF_P#: PCF85063ATL/1,118; PARAM2: 0.9~5.5V; PARAM: I2C, -40~85oC; VALUE: PCF85063; PRICE: 0.9$; PACKAGE: DFN-10
footprint SON50_10T_2525 (DSK SON(TI), DFN2626-10, 2.5X2.5mm, Pitch: 0.5mm with thermal pad)
pins: 1 XI (in), 2 XO (in), 3 CLKOE, 4 INT#, 5 VSS (power), 6 SDA (io), 7 SCL (in), 8 NC, 9 CLKOUT (out), 10 VDD (power), 11 EP (power)

## PCF85063_SON8
designator U?, comment PCF85063  (value not drawn)
Real-Time Clock, I2C, Alarm; MANF: NXP; MANF_P#: PCF85063TP/1Z; PARAM2: 0.9~5.5V; PARAM: I2C, -40~85oC; VALUE: PCF85063; PRICE: 0.9$; PACKAGE: SON-8
footprint SON50_8T_2030 (TDFN, UFDFPN8, Pitch: 0.5mm 2x3x0.8mm with Thermal pad)
pins: 1 XI (in), 2 XO (in), 3 INT#, 4 VSS (power), 5 SDA (io), 6 SCL (in), 7 CLKOUT (out), 8 VDD (power), 9 EP (power)

## PCF85063_SOP8
designator U?, comment PCF85063  (value not drawn)
Real-Time Clock, I2C, Alarm; MANF: NXP; MANF_P#: PCF85063AT/A; PARAM2: 0.9~5.5V; PARAM: I2C, -40~85oC; VALUE: PCF85063; PRICE: 0.9$; PACKAGE: SOP-8
footprint SO_8 (SOP-8, 5x3.9mm body 1.27mm pitch, SOT96-1, M08A, S8, SOIC8, VO8, MS-012AA(JEDEC), R-8, 8S2, VOG8)
pins: 1 XI (in), 2 XO (in), 3 INT#, 4 VSS (power), 5 SDA (io), 6 SCL (in), 7 CLKOUT (out), 8 VDD (power)

## PCF85063_VSSOP8
designator U?, comment PCF85063  (value not drawn)
Real-Time Clock, I2C, Alarm; MANF: NXP; MANF_P#: PCF85063ATT/AJ; PARAM2: 0.9~5.5V; PARAM: I2C, -40~85oC; VALUE: PCF85063; PRICE: 0.9$; PACKAGE: VSSOP-8
footprint SOG65_8_3 (TSSOP8, MICRO8,  DGK VSSOP-8, MSOP8,   RM-8, MS8, MSOP-8, TSSO3X5-G8/D3.1, 8 uMAX, usop8/8uSOP, MO-187AA, MO-153AA, SSOP DCT SM8 (TI), pitch: 0.65mm, 3.0mmX3.0mm)
pins: 1 XI (in), 2 XO (in), 3 INT#, 4 VSS (power), 5 SDA (io), 6 SCL (in), 7 CLKOUT (out), 8 VDD (power)

## PCF85263_DFN10
designator U?, comment PCF85263  (value not drawn)
Real-Time Clock, I2C, Alarm, BATT; MANF: NXP; MANF_P#: PCF85263ATL/AX; PARAM2: 0.9~5.5V, 1.8~5.5VDD; PARAM: I2C, -40~85oC; VALUE: PCF85263; PRICE: 1$; PACKAGE: DFN-10
footprint SON50_10T_2525 (DSK SON(TI), DFN2626-10, 2.5X2.5mm, Pitch: 0.5mm with thermal pad)
pins: 1 XI (in), 2 XO (in), 3 VBAT, 4 INTB#/CLK (out), 5 VSS (power), 6 SDA (io), 7 SCL (in), 8 CLK, 9 INTA#/CLKO (out), 10 VDD (power), 11 EP (power)

## PCF85263_SOP8
designator U?, comment PCF85263  (value not drawn)
Real-Time Clock, I2C, Alarm, BATT; MANF: NXP; MANF_P#: PCF85263AT/AJ; PARAM2: 0.9~5.5V, 1.8~5.5VDD; PARAM: I2C, -40~85oC; VALUE: PCF85263; PRICE: 1$; PACKAGE: SOP-8
footprint SO_8 (SOP-8, 5x3.9mm body 1.27mm pitch, SOT96-1, M08A, S8, SOIC8, VO8, MS-012AA(JEDEC), R-8, 8S2, VOG8)
pins: 1 XI (in), 2 XO (in), 3 VBAT, 4 VSS (power), 5 SDA (io), 6 SCL (in), 7 INT#/CLKO (out), 8 VDD (power)

## PCF85263_VSSOP8
designator U?, comment PCF85263  (value not drawn)
Real-Time Clock, I2C, Alarm, BATT; MANF: NXP; MANF_P#: PCF85263ATT/AJ; PARAM2: 0.9~5.5V, 1.8~5.5VDD; PARAM: I2C, -40~85oC; VALUE: PCF85263; PRICE: 1$; PACKAGE: VSSOP-8
footprint SOG65_8_3 (MICRO8, DGK DCT (TI) VSSOP-8, pitch: 0.65mm, 3X3mm, MSOP8, RM-8, MS8, MSOP-8, TSSO3X5-G8/D3.1, 8 uMAX, usop8/8uSOP, MO-187AA, MO-153AA)
pins: 1 XI (in), 2 XO (in), 3 VBAT, 4 VSS (power), 5 SDA (io), 6 SCL (in), 7 INT#/CLKO (out), 8 VDD (power)

## PCF85263_VSSOP10
designator U?, comment PCF85263  (value not drawn)
Real-Time Clock, I2C, Alarm, BATT; MANF: NXP; MANF_P#: PCF85263ATT1/AJ; PARAM2: 0.9~5.5V, 1.8~5.5VDD; PARAM: I2C, -40~85oC; VALUE: PCF85263; PRICE: 1$; PACKAGE: VSSOP-10
footprint SOG50_10 (MSSOP10, 3X3mm 0.5mm pitch, S-PDSO10_S300-50, MSOP10, 10uSOP/usop10 (Dallas), MO-187BA(JEDEC))
pins: 1 XI (in), 2 XO (in), 3 VBAT, 4 INTB#/CLK (out), 5 VSS (power), 6 SDA (io), 7 SCL (in), 8 CLK, 9 INTA#/CLKO (out), 10 VDD (power)

## RTC-4543_SOP14
designator U?, comment RTC-4543  (value not drawn)
Real-Time Clock, I2C, +IntCryst; MANF: EPSON; MANF_P#: RTC-4543SA; PARAM2: 2.5~5.5V; PARAM: I2C, -40~85oC; VALUE: RTC-4543; PRICE: 4.2$; PACKAGE: SOP-14
footprint SO_14_W5 (SOP NS, 5.3mm width, 1.27mm pitch,)
pins: 1 GND (power), 2 NC, 3 CE, 4 FSEL, 5 WR, 6 FOE, 7 NC, 8 NC, 9 VDD (power), 10 SCL (in), 11 SDA (io), 12 NC, 13 NC, 14 FOUT

## RTC-4543_SOP18
designator U?, comment RTC-4543  (value not drawn)
Real-Time Clock, I2C, +IntCryst; MANF: EPSON; MANF_P#: RTC-4543SB; PARAM2: 2.5~5.5V; PARAM: I2C, -40~85oC; VALUE: RTC-4543; PRICE: 3.6$, 2800toman@Javan; PACKAGE: SOP-18
footprint SO_18_W5 (SOP-18, 5.4mm width, 1.27mm pitch,)
pins: 1 NC, 2 NC, 3 NC, 4 NC, 5 FOE, 6 WR, 7 FSEL, 8 CE, 9 GND (power), 10 FOUT, 11 SDA (io), 12 SCL (in), 13 NC, 14 VDD (power), 15 NC, 16 NC, 17 NC, 18 NC

## RTC-8564_SOJ20
designator U?, comment RTC-8564  (value not drawn)
Real-Time Clock, I2C,+IntCryst; MANF: EPSON; MANF_P#: RTC-8564JE; PARAM2: 2.4~5.5V; PARAM: I2C, -40~85oC; VALUE: RTC-8564; PRICE: 5$; PACKAGE: SOJ-20
footprint SOJ65_20_7054 (VSOJ-20, 7x5.4x1.3mm, 0.65mm pitch)
pins: 1 NC, 2 NC, 3 CLKOE, 4 VDD, 5 CLKOUT, 6 SCL, 7 SDA, 8 GND, 9 GND, 10 INT#, 11 NC, 12 NC, 13 NC, 14 NC, 15 NC, 16 NC, 17 NC, 18 NC, 19 NC, 20 NC

## RTC-8564_SON22
designator U?, comment RTC-8564  (value not drawn)
Real-Time Clock, I2C,+IntCryst; MANF: EPSON; MANF_P#: RTC-8564NB; PARAM2: 2.4~5.5V; PARAM: I2C, -40~85oC; VALUE: RTC-8564; PRICE: 5.2$; PACKAGE: SON-22
footprint SOJ65_20_7054 (VSOJ-20, 7x5.4x1.3mm, 0.65mm pitch)
pins: 1 INT#, 2 GND, 3 GND, 4 NC, 5 SDA, 6 SCL, 7 CLKOUT, 8 VDD, 9 CLKOE, 10 NC, 11 NC, 12 NC, 13 NC, 14 NC, 15 NC, 16 NC, 17 NC, 18 NC, 19 NC, 20 NC, 21 NC, 22 NC

## RX-4581_SON22
designator U?, comment RX-4581  (value not drawn)
Real-Time Clock, SPI, 128B, +IntCryst; MANF: EPSON; MANF_P#: RX-4581NB; PARAM2: 1.6~5.5V; PARAM: SPI, -40~85oC; VALUE: RX-4581; PRICE: 5.2$; PACKAGE: SON-22
footprint SON50_22T_5060 (DQP, PQFN-22, SON-22, 5X6X1.5mm, 0.5mm pitch)
pins: 1 GND, 2 CE1, 3 CE0, 4 DI, 5 DO, 6 CLK, 7 TIRQ#, 8 AIRQ#, 9 FOE, 10 FOUT, 11 VDD, 12 NC, 13 NC, 14 NC, 15 NC, 16 NC, 17 NC, 18 NC, 19 NC, 20 NC, 21 NC, 22 NC

## RX-8035_SOJ12
designator U?, comment RX-8035  (value not drawn)
Real-Time Clock, I2C,+IntCryst, BATT; MANF: EPSON; MANF_P#: RX-8035LC; PARAM2: 2.4~5.5V; PARAM: I2C, -40~85oC; VALUE: RX-8035; PRICE: 5.3$; PACKAGE: SOJ-12
footprint SOJ50_12_3624 (SOJ, 12-Leads, Body 3.60x2.40mm, Pitch 0.50mm)
pins: 1 VOUT, 2 VDD, 3 NC, 4 VBAT, 5 CLKOUT, 6 SCL, 7 INTB#, 8 SDA, 9 GND, 10 INTA#, 11 RES#, 12 EVIN1

## RX-8035_SOP14
designator U?, comment RX-8035  (value not drawn)
Real-Time Clock, I2C,+IntCryst, BATT; MANF: EPSON; MANF_P#: RX-8035SA; PARAM2: 2.4~5.5V; PARAM: I2C, -40~85oC; VALUE: RX-8035; PRICE: 3.8$; PACKAGE: SOP-14
footprint SO_14_W5 (SOP NS, 5.3mm width, 1.27mm pitch,)
pins: 1 NC, 2 SCL, 3 CLKOUT, 4 VBAT, 5 NC, 6 VDD, 7 VOUT, 8 EVIN1, 9 RES#, 10 INTA#, 11 GND, 12 SDA, 13 INTB#, 14 EVIN2

## RX-8564_SOJ12
designator U?, comment RX-8564  (value not drawn)
Real-Time Clock, I2C,+IntCryst; MANF: EPSON; MANF_P#: RX-8564LC; PARAM2: 1.8~5.5V; PARAM: I2C, -40~85oC; VALUE: RX-8564; PRICE: 5.7$; PACKAGE: SOJ-12
footprint SOJ50_12_3624 (SOJ, 12-Leads, Body 3.60x2.40mm, Pitch 0.50mm)
pins: 1 NC, 2 NC, 3 NC, 4 NC, 5 INT#, 6 GND, 7 SDA, 8 SCL, 9 CLKOUT, 10 VDD, 11 CLKOE, 12 NC

## RX-8581_SON22
designator U?, comment RX-8581  (value not drawn)
Real-Time Clock, I2C, +IntCryst; MANF: EPSON; MANF_P#: RX-8581NB; PARAM2: 1.8~5.5V; PARAM: I2C, -40~85oC; VALUE: RX-8581; PRICE: 5.2$; PACKAGE: SON-22
footprint SON50_22_6350 (SON-22, 0.5mm pitch, 5x6.3x1.3mm)
pins: 1 INT#, 2 GND, 3 VDD, 4 NC, 5 SDA, 6 SCL, 7 FOUT, 8 VDD, 9 FOE, 10 NC, 11 NC, 12 NC, 13 NC, 14 NC, 15 NC, 16 NC, 17 NC, 18 NC, 19 NC, 20 NC, 21 NC, 22 NC

## RX-8581_SOP14
designator U?, comment RX-8581  (value not drawn)
Real-Time Clock, I2C, +IntCryst; MANF: EPSON; MANF_P#: RX-8581SA; PARAM2: 1.8~5.5V; PARAM: I2C, -40~85oC; VALUE: RX-8581; PRICE: 4.2$; PACKAGE: SOP-14
footprint SO_14_W5 (SOP NS, 5.3mm width, 1.27mm pitch,)
pins: 1 NC, 2 SCL, 3 SDA, 4 NC, 5 GND, 6 NC, 7 INT#, 8 NC, 9 NC, 10 FOE, 11 VDD, 12 NC, 13 NC, 14 FOUT